# Altium footprint library JST SM07B-GHS-TB.PCBLIB: 1 footprints
Each footprint in its own frame and in the unit in brackets; x right, y up, seen from the top. Pads: shape width x height; smd on the part's side, far side on the other; paste and mask are expansions set on the pad; w line width, h text height; cw(c..) or ccw(c..) is an arc to the next point about the centre after c.
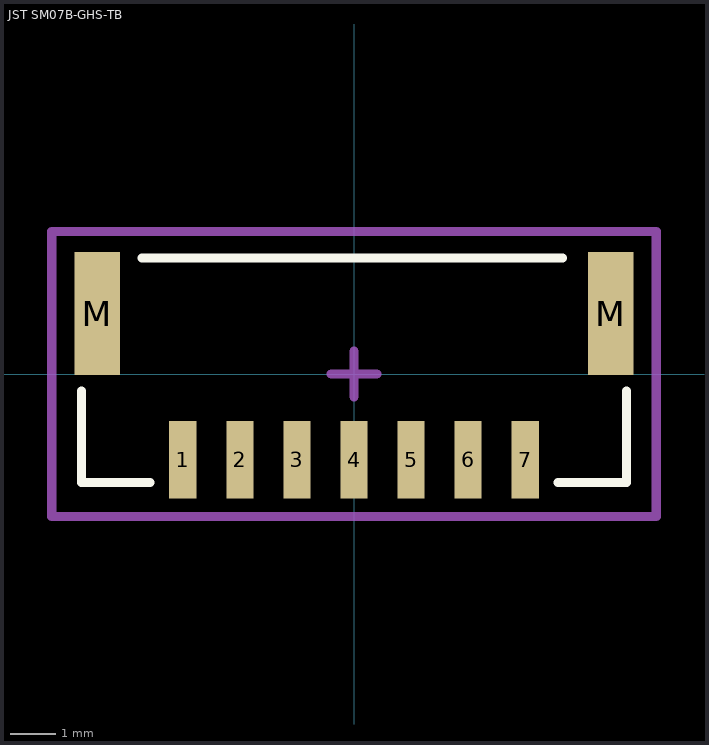
[diagram p0: the footprint, top view; thin cyan lines are the x and y axes]

## JST SM07B-GHS-TB [mm] "1.25mm pitch/Disconnectable Crimp style connectors"
height 4.35
pads (9):
  rect 0.6x1.7 smd: 1(-3.75,-1.875) 2(-2.5,-1.875) 3(-1.25,-1.875) 4(0,-1.875) 5(1.25,-1.875) 6(2.5,-1.875) 7(3.75,-1.875)
  rect 1x2.7 smd: M(-5.625,1.325) M(5.625,1.325)
Top Overlay:
  lines w0.2: -5.975,-0.375 -5.975,-2.375 -4.475,-2.375 ; -4.649,2.54 4.572,2.54 ; 4.475,-2.375 5.975,-2.375 5.975,-0.375
Mechanical 15:
  lines w0.2: -0.5,0 0.5,0 ; 0,-0.5 0,0.5 ; -6.625,-3.125 6.625,-3.125 6.625,3.125 -6.625,3.125 -6.625,-3.125
3D body "JST SM07B-GHS-TB.STEP": height 4.35, standoff 0, extent -6,-2.31 6,2.54